# EAGLE library part CY8C24223A (library CY8C4125AXI)
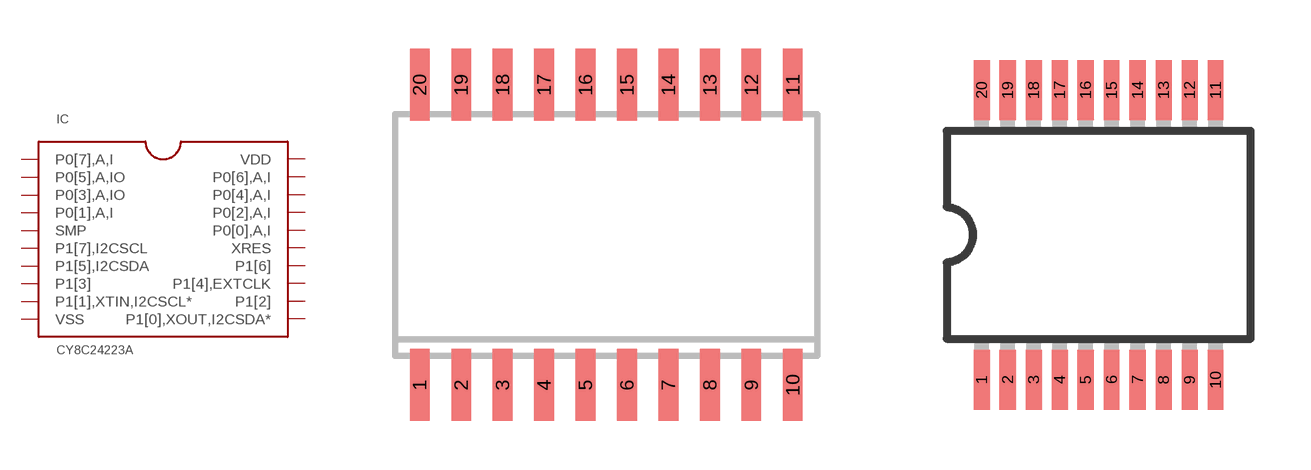
[diagram p11: symbol with the pads of SO20W; footprints SO20W, SSOP20]

Designator prefix IC

## CY8C24223A_SO20W  [SO20W]
1  P0[7],A,I
2  P0[5],A,IO
3  P0[3],A,IO
4  P0[1],A,I
5  SMP  pwr
6  P1[7],I2CSCL
7  P1[5],I2CSDA
8  P1[3]
9  P1[1],XTIN,I2CSCL*
10  VSS  pwr
11  P1[0],XOUT,I2CSDA*
12  P1[2]
13  P1[4],EXTCLK
14  P1[6]
15  XRES
16  P0[0],A,I
17  P0[2],A,I
18  P0[4],A,I
19  P0[6],A,I
20  VDD  pwr

## CY8C24223A_SSOP20  [SSOP20]
Pads as for SO20W

## CY8C24223A_DIP20  [DIP20]
Pads as for SO20W

## Footprint SO20W (pad centres in mm)
SMALL OUTLINE INTEGRATED CIRCUIT wide body 7.5 mm/JEDEC MS-013AC
smd 0.6 x 2.2: 1 -5.715,-4.6; 2 -4.445,-4.6; 3 -3.175,-4.6; 4 -1.905,-4.6; 5 -0.635,-4.6; 6 0.635,-4.6; 7 1.905,-4.6; 8 3.175,-4.6; 9 4.445,-4.6; 10 5.715,-4.6; 11 5.715,4.6; 12 4.445,4.6; 13 3.175,4.6; 14 1.905,4.6; 15 0.635,4.6; 16 -0.635,4.6; 17 -1.905,4.6; 18 -3.175,4.6; 19 -4.445,4.6; 20 -5.715,4.6

## Footprint SSOP20 (pad centres in mm)
20-Lead Shrink Small Outline Package SSOP (RS-20) Source: http://www.analog.com/UploadedFiles/Data_Sheets/39677768AD7714_c.pdf Cut off extra pins to make 20.
smd 0.4 x 1.5: 1 -4.225,-3.625; 2 -3.575,-3.625; 3 -2.925,-3.625; 4 -2.275,-3.625; 5 -1.625,-3.625; 6 -0.975,-3.625; 7 -0.325,-3.625; 8 0.325,-3.625; 9 0.975,-3.625; 10 1.625,-3.625; 11 1.625,3.625; 12 0.975,3.625; 13 0.325,3.625; 14 -0.325,3.625; 15 -0.975,3.625; 16 -1.625,3.625; 17 -2.275,3.625; 18 -2.925,3.625; 19 -3.575,3.625; 20 -4.225,3.625

## Footprint DIP20 (pad centres in mm)
Dual In Line Package
drill 0.813 long: 1 -11.43,-3.81; 2 -8.89,-3.81; 3 -6.35,-3.81; 4 -3.81,-3.81; 5 -1.27,-3.81; 6 1.27,-3.81; 7 3.81,-3.81; 8 6.35,-3.81; 9 8.89,-3.81; 10 11.43,-3.81; 11 11.43,3.81; 12 8.89,3.81; 13 6.35,3.81; 14 3.81,3.81; 15 1.27,3.81; 16 -1.27,3.81; 17 -3.81,3.81; 18 -6.35,3.81; 19 -8.89,3.81; 20 -11.43,3.81